# EAGLE library part RFM23BP (library hoperf-electronic)
RFM23BP RFM23BP ISM TRANSCEIVER MODULE V2.0
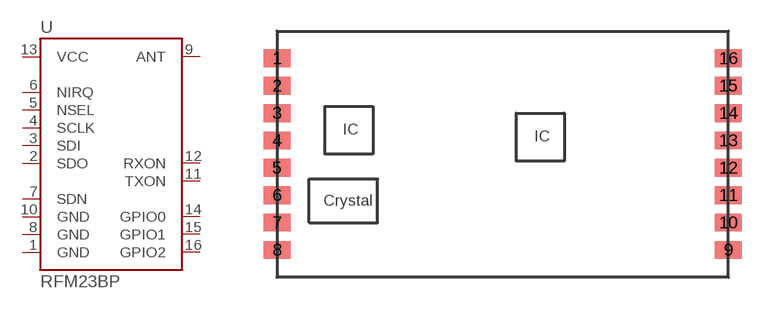
[diagram p1: symbol with the pads of RFM32BP-S2; footprint RFM32BP-S2]

Designator prefix -

## RFM23BPSMD2  [RFM32BP-S2]
1  GND  pwr
2  SDO  out
3  SDI  in
4  SCLK  in
5  NSEL  in
6  NIRQ  out
7  SDN  in
8  GND  pwr
9  ANT
10  GND  pwr
11  TXON  in
12  RXON  in
13  VCC
14  GPIO0
15  GPIO1
16  GPIO2

## Footprint RFM32BP-S2 (pad centres in mm)
smd 2 x 1.3: 1 -16.5,7; 2 -16.5,5; 3 -16.5,3; 4 -16.5,1; 5 -16.5,-1; 6 -16.5,-3; 7 -16.5,-5; 8 -16.5,-7; 9 16.5,-7; 10 16.5,-5; 11 16.5,-3; 12 16.5,-1; 13 16.5,1; 14 16.5,3; 15 16.5,5; 16 16.5,7